# EAGLE library part NXB0102DCH (library NXB0102DCH)
Voltage Level Translator 1-CH Unidirectional 8-Pin VSSOP T/R Source: Datasheet <https://assets.nexperia.com/documents/data-sheet/NXB0102.pdf>
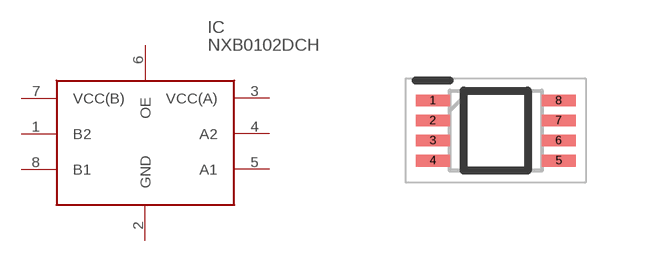
[diagram p0: symbol with the pads of SOP50P310X100-8N; footprint SOP50P310X100-8N]

Designator prefix IC

## NXB0102DCH (DESCRIPTION: Voltage Level Translator 1-CH Unidirectional 8-Pin VSSOP T/R; HEIGHT: 1mm; MANUFACTURER_NAME: Nexperia; MANUFACTURER_PART_NUMBER: NXB0102DCH; MOUSER_PART_NUMBER: 771-NXB0102DCH; MOUSER_PRICE-STOCK: https://www.mouser.co.uk/ProductDetail/Nexperia/NXB0102DCH?qs=zW32dvEIR3t3BWStSBR6cA%3D%3D)  [SOP50P310X100-8N]
1  B2
2  GND
3  VCC(A)
4  A2
5  A1
6  OE
7  VCC(B)
8  B1

## Footprint SOP50P310X100-8N (pad centres in mm)
SOT765-1-1
smd 0.85 x 0.3: 1 -1.575,0.75; 2 -1.575,0.25; 3 -1.575,-0.25; 4 -1.575,-0.75; 5 1.575,-0.75; 6 1.575,-0.25; 7 1.575,0.25; 8 1.575,0.75